# EAGLE library part CC2550 (library chipcon-ti-V2)
Single Chip Low Cost Low Power RF-Transmitter frequency band at 2400-2483.5 MHz.
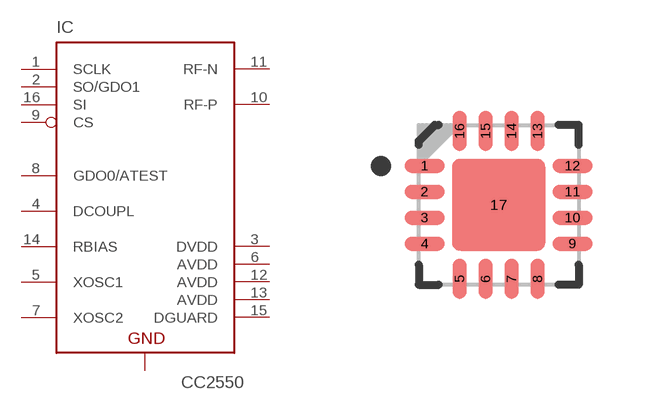
[diagram p10: symbol with the pads of QFN65P400X400X95-17N; footprint QFN65P400X400X95-17N]

Designator prefix IC

## CC2550  [QFN65P400X400X95-17N]
1  SCLK  in
2  SO/GDO1  out
3  DVDD  pwr
4  DCOUPL
5  XOSC1  in
6  AVDD  pwr
7  XOSC2  out
8  GDO0/ATEST  out
9  CS  in
10  RF-P
11  RF-N
12  AVDD  pwr
13  AVDD  pwr
14  RBIAS
15  DGUARD  pwr
16  SI  in
17  GND  pwr

## Footprint QFN65P400X400X95-17N (pad centres in mm)
QFN,0.65mm pitch,square;16 pin,4.00mm L X 4.00mm W X 0.95mm H body (w/thermal tab) IPC7351A for VQFN16
smd 1 x 0.35: 1 -1.85,0.975; 2 -1.85,0.325; 3 -1.85,-0.325; 4 -1.85,-0.975; 9 1.85,-0.975; 10 1.85,-0.325; 11 1.85,0.325; 12 1.85,0.975
smd 0.35 x 1: 5 -0.975,-1.85; 6 -0.325,-1.85; 7 0.325,-1.85; 8 0.975,-1.85; 13 0.975,1.85; 14 0.325,1.85; 15 -0.325,1.85; 16 -0.975,1.85
smd 0.4 x 0.4: 17 0,0